# Altium footprint library TSOC-6.PcbLib: 1 footprints
Each footprint in its own frame and in the unit in brackets; x right, y up, seen from the top. Pads: shape width x height; smd on the part's side, far side on the other; paste and mask are expansions set on the pad; w line width, h text height; cw(c..) or ccw(c..) is an arc to the next point about the centre after c.
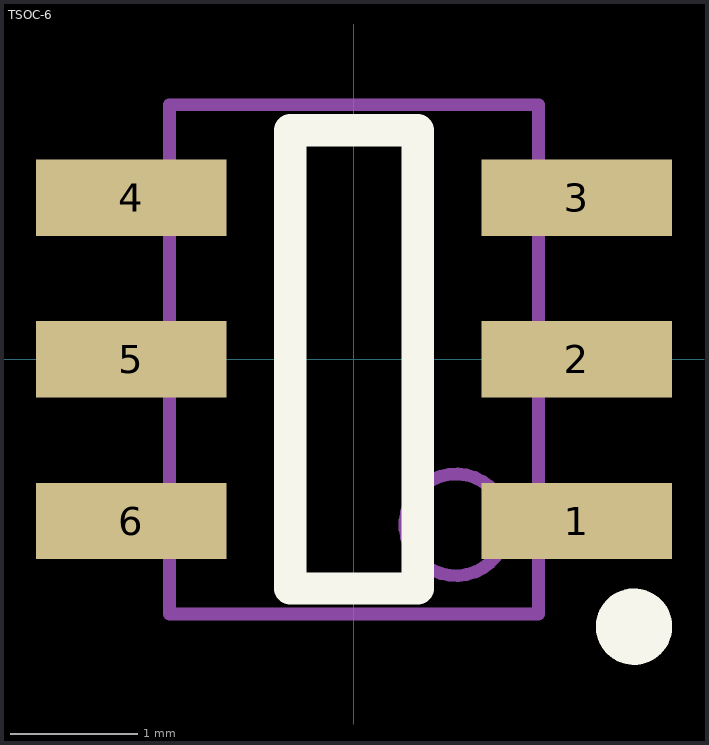
[diagram p0: the footprint, top view; thin cyan lines are the x and y axes]

## TSOC-6 [mm]
pads (6):
  rect 1.5x0.6 smd: 1(1.75,-1.27) 2(1.75,0) 3(1.75,1.27) 4(-1.75,1.27) 5(-1.75,0) 6(-1.75,-1.27)
Top Overlay:
  circle w0.3: c2.2,-2.1 r0.15
  lines w0.254: -0.5,-1.8 -0.5,1.8 0.5,1.8 0.5,-1.8 -0.5,-1.8
Mechanical 13:
  circle w0.1: c0.8,-1.3 r0.4
  lines w0.1: -1.45,-2 1.45,-2 1.45,2 -1.45,2 -1.45,-2